# Altium footprint library PCBLIB1.PCBLIB: 3 footprints
Each footprint in its own frame and in the unit in brackets; x right, y up, seen from the top. Pads: shape width x height; smd on the part's side, far side on the other; paste and mask are expansions set on the pad; w line width, h text height; cw(c..) or ccw(c..) is an arc to the next point about the centre after c.
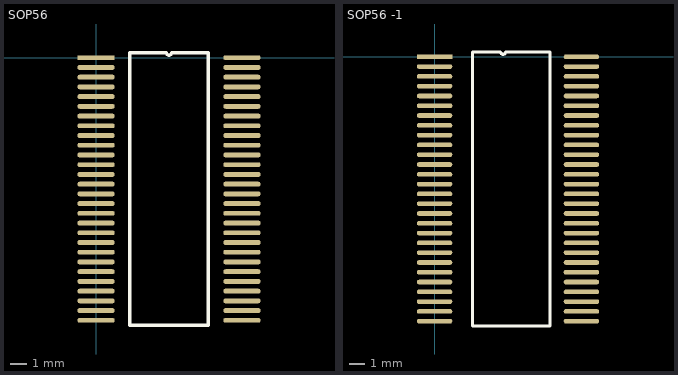
[diagram p0: the footprints below, top view; thin cyan lines are the x and y axes]

## PCBComponent_1 [mm]

## SOP56 [mm]
pads (56):
  rect 2.305x0.3 smd: 1(0,0)
  oval 2.305x0.3 smd: 2(0,-0.6) 3(0,-1.2) 4(0,-1.8) 5(0,-2.4) 6(0,-3) 7(0,-3.6) 8(0,-4.2) 9(0,-4.8) 10(0,-5.4) 11(0,-6) 12(0,-6.6) 13(0,-7.2) 14(0,-7.8) 15(0,-8.4) 16(0,-9) 17(0,-9.6) 18(0,-10.2) 19(0,-10.8) 20(0,-11.4) 21(0,-12) 22(0,-12.6) 23(0,-13.2) 24(0,-13.8) 25(0,-14.4) 26(0,-15) 27(0,-15.6) 28(0,-16.2) 29(9,-16.2) 30(9,-15.6) 31(9,-15) 32(9,-14.4) 33(9,-13.8) 34(9,-13.2) 35(9,-12.6) 36(9,-12) 37(9,-11.4) 38(9,-10.8) 39(9,-10.2) 40(9,-9.6) 41(9,-9) 42(9,-8.4) 43(9,-7.8) 44(9,-7.2) 45(9,-6.6) 46(9,-6) 47(9,-5.4) 48(9,-4.8) 49(9,-4.2) 50(9,-3.6) 51(9,-3) 52(9,-2.4) 53(9,-1.8) 54(9,-1.2) 55(9,-0.6) 56(9,0)
TopOverlay:
  lines w0.2: 2.085,-16.5 2.085,0.3 4.35,0.3 ccw(c4.5,0.3) 4.65,0.3 6.915,0.3 6.915,-16.5 2.085,-16.5

## SOP56 -1 [mm]
pads (56):
  rect 2.305x0.3 smd: 1(0,0)
  oval 2.305x0.3 smd: 2(0,-0.635) 3(0,-1.27) 4(0,-1.905) 5(0,-2.54) 6(0,-3.175) 7(0,-3.81) 8(0,-4.445) 9(0,-5.08) 10(0,-5.715) 11(0,-6.35) 12(0,-6.985) 13(0,-7.62) 14(0,-8.255) 15(0,-8.89) 16(0,-9.525) 17(0,-10.16) 18(0,-10.795) 19(0,-11.43) 20(0,-12.065) 21(0,-12.7) 22(0,-13.335) 23(0,-13.97) 24(0,-14.605) 25(0,-15.24) 26(0,-15.875) 27(0,-16.51) 28(0,-17.145) 29(9.525,-17.145) 30(9.525,-16.51) 31(9.525,-15.875) 32(9.525,-15.24) 33(9.525,-14.605) 34(9.525,-13.97) 35(9.525,-13.335) 36(9.525,-12.7) 37(9.525,-12.065) 38(9.525,-11.43) 39(9.525,-10.795) 40(9.525,-10.16) 41(9.525,-9.525) 42(9.525,-8.89) 43(9.525,-8.255) 44(9.525,-7.62) 45(9.525,-6.985) 46(9.525,-6.35) 47(9.525,-5.715) 48(9.525,-5.08) 49(9.525,-4.445) 50(9.525,-3.81) 51(9.525,-3.175) 52(9.525,-2.54) 53(9.525,-1.905) 54(9.525,-1.27) 55(9.525,-0.635) 56(9.525,0)
TopOverlay:
  lines w0.2: 2.448,-17.462 2.448,0.318 3.673,0.318 4.286,0.318 ccw(c4.445,0.318) 4.604,0.317 7.493,0.318 7.493,-17.462 2.448,-17.462